# Altium schematic symbol library DZDH0401DW.SchLib: 1 symbol
Pins are listed as number, name and electrical type; pins without a type are passive.

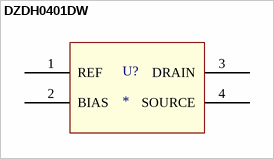
[diagram p0: symbol DZDH0401DW]

## DZDH0401DW
designator U?
IDEAL DIODE CONTROLLER
footprint SOT363; pin to pad 1>2 2>3 3>6
pins: 1 REF, 2 BIAS, 3 DRAIN, 4 SOURCE